# Altium schematic symbol library MBR0520LT1G.SchLib: 2 symbols
Pins are listed as number, name and electrical type; pins without a type are passive.

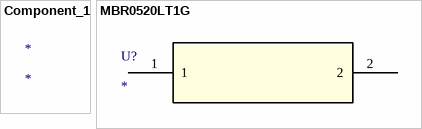
[diagram p0: symbols Component_1 to MBR0520LT1G]

## Component_1
designator *

## MBR0520LT1G
designator U?
Imported; Manufacturer_Part_Number: MBR0520LT1G; Vendor: ON Semiconductor; C: Copyright (C) 2015 Accelerated Designs. All rights reserved; Copyright: Copyright (C) 2015 Accelerated Designs. All rights reserved; Value: Value; Type: Type; RefDes: RefDes
footprint SOD-123
pins: 1, 2